# Altium schematic symbol library Schlib1.SchLib: 19 symbols
Pins are listed as number, name and electrical type; pins without a type are passive.

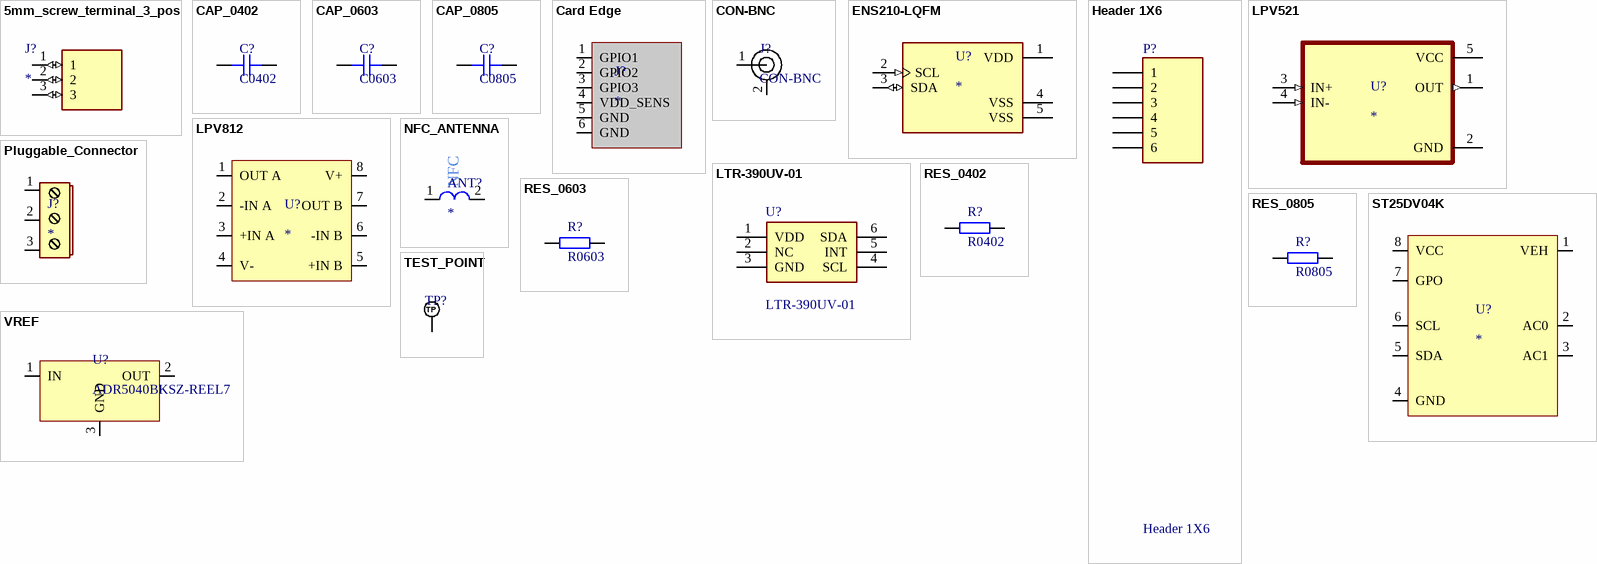
[diagram p0: symbols 5mm_screw_terminal_3_pos to VREF]

## 5mm_screw_terminal_3_pos
designator J?
3 Position Wire to Board Terminal Block Horizontal with Board 0.197 (5.00mm) Through Hole; MP: 1715035; MF: Phoenix Contact; Availability: In Stock; Price: None; Check_prices: https://www.snapeda.com/parts/1715035/Phoenix+Contact/view-part/?ref=eda; Value: *; SnapEDA_Link: https://www.snapeda.com/parts/1715035/Phoenix+Contact/view-part/?ref=snap; Purchase-URL: https://pricing.snapeda.com/search/part/1715035/?ref=eda; Package: None
footprint 1715035
pins: 1 (io), 2 (io), 3 (io)

## CAP_0402
designator C?, comment C0402
Capacitor SMD 0402; Manufacturer: *; Manufacturer Part Number: *; Distributor Link: *; LCSC: *; Rating: *; Dielectric: *
footprint CAP_0402
pins: 1, 2

## CAP_0603
designator C?, comment C0603
Capacitor SMD 0603; Manufacturer: *; Manufacturer Part Number: *; Distributor Link: *; LCSC: *; Rating: *; Dielectric: *
footprint CAP_0603
pins: 1, 2

## CAP_0805
designator C?, comment C0805
Capacitor SMD 0805; Manufacturer: *; Manufacturer Part Number: *; Distributor Link: *; LCSC: *; Rating: *; Dielectric: *
footprint CAP_0805
pins: 1, 2

## Card Edge
designator J?
Card Edge pads for 2.54 mm pitch edge connector
pins: 1 GPIO1, 2 GPIO2, 3 GPIO3, 4 VDD_SENS, 5 GND, 6 GND

## CON-BNC
designator J?
RF Connector BNC Female 50 Ohms PCB TH Mount; Manufacturer: RF Solutions; Manufacturer Part Number: CON-SMA-EDGE-S
footprint CON_BNC_MOLEX_0731375003
pins: 1, 2

## ENS210-LQFM
designator U?
Humidity/Temperature Sensor Digital Serial (2-Wire, I2C) 4-Pin QFN EP T/R; MF: ScioSense; MP: ENS210-LQFM; SnapEDA_Link: https://www.snapeda.com/parts/ENS210-LQFM/ScioSense/view-part/?ref=snap; Package: NON STANDARD-5 ScioSense; Value: *; Check_prices: https://www.snapeda.com/parts/ENS210-LQFM/ScioSense/view-part/?ref=eda
footprint XDCR_ENS210-LQFM
pins: 1 VDD (power), 2 SCL (in), 3 SDA (io), 4 VSS (power), 5 VSS (power)

## Header 1X6
designator P?
Header,6-Pin, Single row; LatestRevisionDate: 17-Jul-2002; LatestRevisionNote: Re-released for DXP Platform.; Publisher: Altium Limited
footprint HDR2X32 (Connector; Header; 30x2 Position)
signal-integrity model Connector
pins: 1, 2, 3, 4, 5, 6

## LPV521
designator U?
MP: MAX4466EXK; Package: None; Price: None; Value: *; Availability: Unavailable
footprint SOT65P210X110-5N
pins: 1 OUT (out), 2 GND (power), 3 IN+ (in), 4 IN- (in), 5 VCC (power)

## LPV812
designator U?
Dual Channel 425nA Precision Nanopower Operational Amplifiers
pins: 1 OUT A, 2 -IN A, 3 +IN A, 4 V-, 5 +IN B, 6 -IN B, 7 OUT B, 8 V+

## LTR-390UV-01
designator U?
SENSOR OPT ULTRAVIOLET 6PINS; Manufacturer_Name: Lite-On; Geometry.Height: 0.9mm; Manufacturer_Part_Number: LTR-390UV-01; Mouser Part Number: 859-LTR390UV01; Mouser Price/Stock: https://www.mouser.co.uk/ProductDetail/Lite-On/LTR-390UV-01?qs=g5ciJ0jwZaECcUd5i6p7%252Bg%3D%3D; Arrow Part Number: LTR-390UV-01; Arrow Price/Stock: https://www.arrow.com/en/products/ltr-390uv-01/lite-on-technology?region=nac; Datasheet Link: https://www.arrow.com/en/products/ltr-390uv-01/lite-on-technology
footprint LTR390-UV
pins: 1 VDD, 2 NC, 3 GND, 4 SCL, 5 INT, 6 SDA

## NFC_ANTENNA
designator ANT?
pins: 1, 2
text: NFC

## Pluggable_Connector
designator J?
Screw terminal or plug terminal
footprint 5mm_screw_terminal_3_pos
pins: 1, 2, 3

## RES_0402
designator R?, comment R0402
Resistor SMD 0402; Manufacturer: *; Manufacturer Part Number: *; Distributor Link: *; LCSC: *
footprint RES_0402
pins: 1, 2

## RES_0603
designator R?, comment R0603
Resistor SMD 0603; Manufacturer: *; Manufacturer Part Number: *; Distributor Link: *; LCSC: *
footprint RES_0603
pins: 1, 2

## RES_0805
designator R?, comment R0805
Resistor SMD 0805; Manufacturer: *; Manufacturer Part Number: *; Distributor Link: *; LCSC: *
footprint RES_0805
pins: 1, 2

## ST25DV04K
designator U?
ST25DO4K NFC module with I2C
pins: 1 VEH, 2 AC0, 3 AC1, 4 GND, 5 SDA, 6 SCL, 7 GPO, 8 VCC

## TEST_POINT
designator TP?, comment TP_NOBOM  (value not drawn)  (no BOM)
Test Point Round 1mm (NO BOM)
footprint PAD_RND_1MM
pins: 1 TP

## VREF
designator U?, comment ADR5040BKSZ-REEL7
Voltage References 2.048 Low-Cost, Micropower, Low-Dropout, High-Output-Current, SOT23; Manufacturer: Maxim Integrated; Manufacturer Part Number: MAX6101EUR+T
footprint SOT23-3 (SOT-23; 3 Leads; Body 3.0 x 2.5 mm, inc. leads (LxW max))
pins: 1 IN, 2 OUT, 3 GND